# Altium footprint library CommonPcb.PcbLib: 194 footprints (part 4 of 13)
Each footprint in its own frame and in the unit in brackets; x right, y up, seen from the top. Pads: shape width x height; smd on the part's side, far side on the other; paste and mask are expansions set on the pad; w line width, h text height; cw(c..) or ccw(c..) is an arc to the next point about the centre after c.
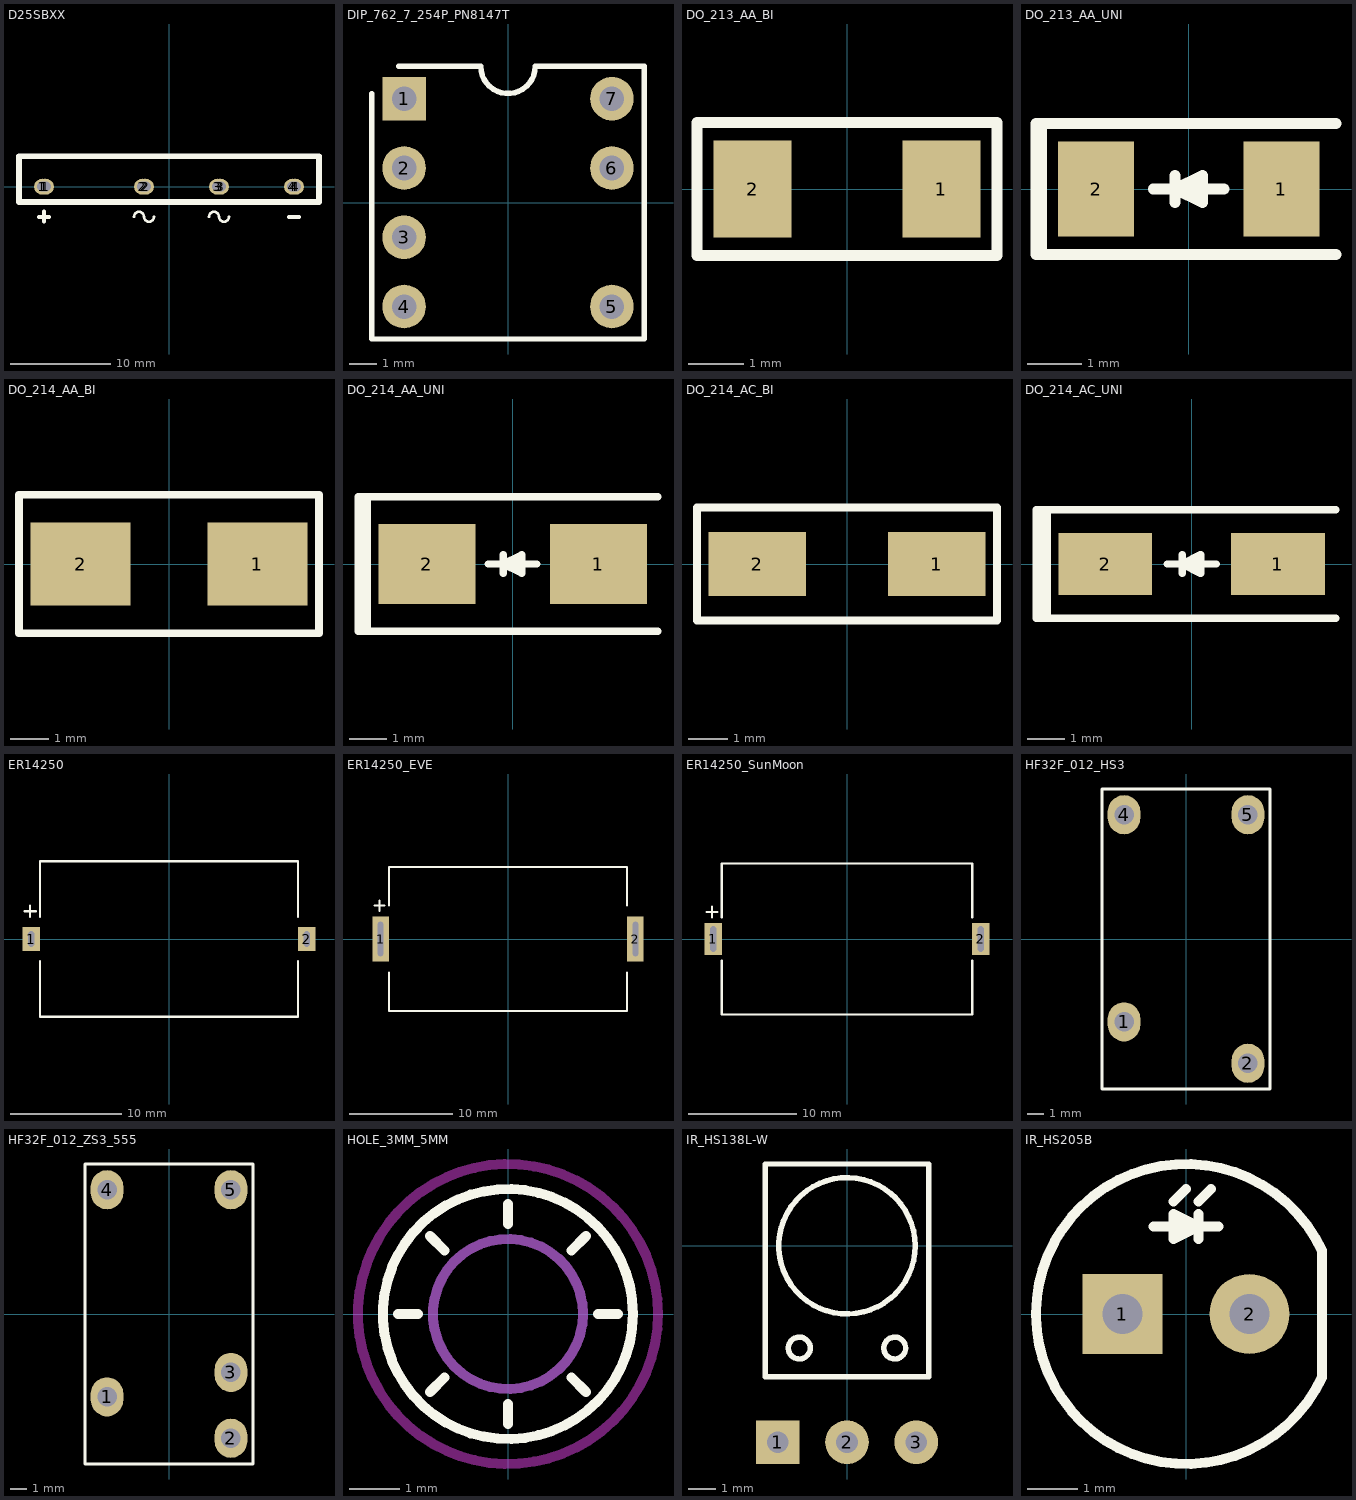
[diagram p3: the footprints below, top view; thin cyan lines are the x and y axes]

## D25SBXX [mm] "D25SBXX"
height 24
pads (12):
  round 1.6 hole 1 mask+0.1: 1(-12.7,0) 1(-12.5,0) 1(-12.3,0) 2(-2.7,0) 2(-2.5,0) 2(-2.3,0) 3(4.8,0) 3(5,0) 3(5.2,0) 4(12.3,0) 4(12.5,0) 4(12.7,0)
Top Overlay:
  lines w0.254: -3.5,-3 cw(c-3,-3) -2.5,-3 ccw(c-2,-3) -1.5,-3 ; 4,-3 cw(c4.5,-3) 5,-3 ccw(c5.5,-3) 6,-3
  lines w0.4: -13,-3 -12,-3 ; -12.5,-3.5 -12.5,-2.5 ; 12,-3 13,-3
  lines w0.6: -15,-1.55 15,-1.55 15,3.05 -15,3.05 -15,-1.55
3D body: height 24, standoff 0, extent -14.999,-1.549 14.999,3.049

## DIP_762_7_254P_PN8147T [mm] "DIP_762_7_254P"
height 4
pads (7):
  rect 1.6x1.6 hole 0.9 mask+0.1: 1(-3.81,3.81)
  round 1.6 hole 0.9 mask+0.1: 2(-3.81,1.27) 3(-3.81,-1.27) 4(-3.81,-3.81) 5(3.81,-3.81) 6(3.81,1.27) 7(3.81,3.81)
Top Overlay:
  lines w0.2: -5,4 -5,-5 5,-5 5,5 1,5 cw(c0,5) -1,5 -4,5
3D body: height 10, standoff 5, extent -5,-5 5,5

## DO_213_AA_BI [mm] "Mini-MELF  DO213-AA  LL-34  SOD-80"
pads (2):
  rect 1.4x1.75 smd mask+0.1: 1(1.7,0) 2(-1.7,0)
Top Overlay:
  lines w0.2: -2.7,-1.2 -2.7,1.2 2.7,1.2 2.7,-1.2 -2.7,-1.2
3D body: height 0, standoff 0, extent -2.699,-1.199 2.699,1.199

## DO_213_AA_UNI [mm] "Mini-MELF  DO213-AA  LL-34  SOD-80"
pads (2):
  rect 1.4x1.75 smd mask+0.1: 1(1.7,0) 2(-1.7,0)
Top Overlay:
  lines w0.2: -0.65,0 -0.25,0 ; -0.25,-0.25 -0.25,0.25 ; 0.65,0 0.25,0 -0.25,0 ; 2.7,-1.2 -2.7,-1.2 ; 2.7,1.2 -2.7,1.2 ; -2.7,-1.2 -2.7,1.2 ; -2.7,-1.2 -2.8,-1.2 -2.8,1.2 -2.7,1.2 ; -0.25,0 0.25,-0.25 0.25,0.25 -0.25,0
3D body: height 0, standoff 0, extent -2.699,-1.199 2.699,1.199

## DO_214_AA_BI [mm] "DO_214_AA  SMB"
pads (2):
  rect 2.6x2.15 smd mask+0.1: 1(2.3,0) 2(-2.3,0)
Top Overlay:
  lines w0.2: -3.9,-1.8 -3.9,1.8 3.9,1.8 3.9,-1.8 -3.9,-1.8
3D body: height 0, standoff 0, extent -3.899,-1.799 3.899,1.799

## DO_214_AA_UNI [mm] "DO_214_AA  SMB"
pads (2):
  rect 2.6x2.15 smd mask+0.1: 1(2.3,0) 2(-2.3,0)
Top Overlay:
  lines w0.2: -0.65,0 -0.25,0 ; -0.25,-0.25 -0.25,0.25 ; 0.65,0 0.25,0 -0.25,0 ; 3.9,-1.8 -3.9,-1.8 ; 3.9,1.8 -3.9,1.8 ; -4,-1.8 -4,1.8 ; -4,-1.8 -3.9,-1.8 ; -4,-1.8 -4.15,-1.8 -4.15,1.8 -4,1.8 ; -4,1.8 -3.9,1.8 ; -3.9,-1.8 -3.9,1.8 ; -0.25,0 0.25,0.25 0.25,-0.25 -0.25,0
3D body: height 0, standoff 0, extent -3.899,-1.799 3.899,1.799

## DO_214_AC_BI [mm] "DO_214_AC  SMA"
pads (2):
  rect 2.5x1.65 smd mask+0.1: 1(2.3,0) 2(-2.3,0)
Top Overlay:
  lines w0.2: -3.85,-1.45 -3.85,1.45 3.85,1.45 3.85,-1.45 -3.85,-1.45
3D body: height 0, standoff 0, extent -3.849,-1.449 3.849,1.449

## DO_214_AC_UNI [mm] "DO_214_AC SMA"
pads (2):
  rect 2.5x1.65 smd mask+0.1: 1(2.3,0) 2(-2.3,0)
Top Overlay:
  lines w0.2: -3.849,-1.449 -4,-1.449 ; -0.65,0 -0.25,0 ; -0.25,-0.25 -0.25,0.25 ; 0.65,0 0.25,0 -0.25,0 ; 3.85,-1.45 -3.85,-1.45 -3.85,1.45 ; 3.85,1.45 -3.85,1.45 ; -4,-1.449 -4,1.45 ; -4,-1.449 -4.15,-1.449 -4.15,1.45 -4,1.45 ; -4,1.45 -3.85,1.45 ; -0.25,0 0.25,0.25 0.25,-0.25 -0.25,0
3D body: height 0, standoff 0, extent -3.849,-1.449 3.849,1.449

## ER14250 [mm] "ER14250"
pads (36):
  round 0.6 hole 0.6 mask+0: 1(-12.4,-0.4) 1(-12.4,-0.35) 1(-12.4,-0.3) 1(-12.4,-0.25) 1(-12.4,-0.2) 1(-12.4,-0.15) 1(-12.4,-0.1) 1(-12.4,-0.05) 1(-12.4,0) 1(-12.4,0.05) 1(-12.4,0.1) 1(-12.4,0.15) 1(-12.4,0.2) 1(-12.4,0.25) 1(-12.4,0.3) 1(-12.4,0.35) 1(-12.4,0.4) 2(12.4,-0.4) 2(12.4,-0.35) 2(12.4,-0.3) 2(12.4,-0.25) 2(12.4,-0.2) 2(12.4,-0.15) 2(12.4,-0.1) 2(12.4,-0.05) 2(12.4,0) 2(12.4,0.05) 2(12.4,0.1) 2(12.4,0.15) 2(12.4,0.2) 2(12.4,0.25) 2(12.4,0.3) 2(12.4,0.35) 2(12.4,0.4)
  rect 1.6x2.2 hole 0.6 mask+0.1: 1(-12.4,0) 2(12.4,0)
Top Overlay:
  lines w0.2: -13,2.5 -12,2.5 ; -12.5,2 -12.5,3 ; -11.6,-2 -11.6,-7 11.6,-7 11.6,-2 ; -11.6,2 -11.6,7 11.6,7 11.6,2
3D body: height 0, standoff 0, extent -13.3,-7.1 13.3,7.1

## ER14250_EVE [mm] "ER14250"
pads (116):
  round 0.6 hole 0.6 mask+0: 1(-12.4,-1.4) 1(-12.4,-1.35) 1(-12.4,-1.3) 1(-12.4,-1.25) 1(-12.4,-1.2) 1(-12.4,-1.15) 1(-12.4,-1.1) 1(-12.4,-1.05) 1(-12.4,-1) 1(-12.4,-0.95) 1(-12.4,-0.9) 1(-12.4,-0.85) 1(-12.4,-0.8) 1(-12.4,-0.75) 1(-12.4,-0.7) 1(-12.4,-0.65) 1(-12.4,-0.6) 1(-12.4,-0.55) 1(-12.4,-0.5) 1(-12.4,-0.45) 1(-12.4,-0.4) 1(-12.4,-0.35) 1(-12.4,-0.3) 1(-12.4,-0.25) 1(-12.4,-0.2) 1(-12.4,-0.15) 1(-12.4,-0.1) 1(-12.4,-0.05) 1(-12.4,0) 1(-12.4,0.05) 1(-12.4,0.1) 1(-12.4,0.15) 1(-12.4,0.2) 1(-12.4,0.25) 1(-12.4,0.3) 1(-12.4,0.35) 1(-12.4,0.4) 1(-12.4,0.45) 1(-12.4,0.5) 1(-12.4,0.55) 1(-12.4,0.6) 1(-12.4,0.65) 1(-12.4,0.7) 1(-12.4,0.75) 1(-12.4,0.8) 1(-12.4,0.85) 1(-12.4,0.9) 1(-12.4,0.95) 1(-12.4,1) 1(-12.4,1.05) 1(-12.4,1.1) 1(-12.4,1.15) 1(-12.4,1.2) 1(-12.4,1.25) 1(-12.4,1.3) 1(-12.4,1.35) 1(-12.4,1.4) 2(12.4,-1.4) 2(12.4,-1.35) 2(12.4,-1.3) 2(12.4,-1.25) 2(12.4,-1.2) 2(12.4,-1.15) 2(12.4,-1.1) 2(12.4,-1.05) 2(12.4,-1) 2(12.4,-0.95) 2(12.4,-0.9) 2(12.4,-0.85) 2(12.4,-0.8) 2(12.4,-0.75) 2(12.4,-0.7) 2(12.4,-0.65) 2(12.4,-0.6) 2(12.4,-0.55) 2(12.4,-0.5) 2(12.4,-0.45) 2(12.4,-0.4) 2(12.4,-0.35) 2(12.4,-0.3) 2(12.4,-0.25) 2(12.4,-0.2) 2(12.4,-0.15) 2(12.4,-0.1) 2(12.4,-0.05) 2(12.4,0) 2(12.4,0.05) 2(12.4,0.1) 2(12.4,0.15) 2(12.4,0.2) 2(12.4,0.25) 2(12.4,0.3) 2(12.4,0.35) 2(12.4,0.4) 2(12.4,0.45) 2(12.4,0.5) 2(12.4,0.55) 2(12.4,0.6) 2(12.4,0.65) 2(12.4,0.7) 2(12.4,0.75) 2(12.4,0.8) 2(12.4,0.85) 2(12.4,0.9) 2(12.4,0.95) 2(12.4,1) 2(12.4,1.05) 2(12.4,1.1) 2(12.4,1.15) 2(12.4,1.2) 2(12.4,1.25) 2(12.4,1.3) 2(12.4,1.35) 2(12.4,1.4)
  rect 1.6x4.4 hole 0.6 mask+0.1: 1(-12.4,0) 2(12.4,0)
Top Overlay:
  lines w0.2: -13,3.25 -12,3.25 ; -12.5,2.75 -12.5,3.75 ; -11.6,-3.25 -11.6,-7 11.6,-7 11.6,-3.25 ; -11.6,3.25 -11.6,7 11.6,7 11.6,3.25
3D body: height 0, standoff 0, extent -13.3,-7.1 13.3,7.1

## ER14250_SunMoon [mm] "ER14250"
pads (76):
  round 0.6 hole 0.6 mask+0: 1(-12.4,-0.9) 1(-12.4,-0.85) 1(-12.4,-0.8) 1(-12.4,-0.75) 1(-12.4,-0.7) 1(-12.4,-0.65) 1(-12.4,-0.6) 1(-12.4,-0.55) 1(-12.4,-0.5) 1(-12.4,-0.45) 1(-12.4,-0.4) 1(-12.4,-0.35) 1(-12.4,-0.3) 1(-12.4,-0.25) 1(-12.4,-0.2) 1(-12.4,-0.15) 1(-12.4,-0.1) 1(-12.4,-0.05) 1(-12.4,0) 1(-12.4,0.05) 1(-12.4,0.1) 1(-12.4,0.15) 1(-12.4,0.2) 1(-12.4,0.25) 1(-12.4,0.3) 1(-12.4,0.35) 1(-12.4,0.4) 1(-12.4,0.45) 1(-12.4,0.5) 1(-12.4,0.55) 1(-12.4,0.6) 1(-12.4,0.65) 1(-12.4,0.7) 1(-12.4,0.75) 1(-12.4,0.8) 1(-12.4,0.85) 1(-12.4,0.9) 2(12.4,-0.9) 2(12.4,-0.85) 2(12.4,-0.8) 2(12.4,-0.75) 2(12.4,-0.7) 2(12.4,-0.65) 2(12.4,-0.6) 2(12.4,-0.55) 2(12.4,-0.5) 2(12.4,-0.45) 2(12.4,-0.4) 2(12.4,-0.35) 2(12.4,-0.3) 2(12.4,-0.25) 2(12.4,-0.2) 2(12.4,-0.15) 2(12.4,-0.1) 2(12.4,-0.05) 2(12.4,0) 2(12.4,0.05) 2(12.4,0.1) 2(12.4,0.15) 2(12.4,0.2) 2(12.4,0.25) 2(12.4,0.3) 2(12.4,0.35) 2(12.4,0.4) 2(12.4,0.45) 2(12.4,0.5) 2(12.4,0.55) 2(12.4,0.6) 2(12.4,0.65) 2(12.4,0.7) 2(12.4,0.75) 2(12.4,0.8) 2(12.4,0.85) 2(12.4,0.9)
  rect 1.6x3 hole 0.6 mask+0.1: 1(-12.4,0) 2(12.4,0)
Top Overlay:
  lines w0.2: -13,2.5 -12,2.5 ; -12.5,2 -12.5,3 ; -11.6,-2 -11.6,-7 11.6,-7 11.6,-2 ; -11.6,2 -11.6,7 11.6,7 11.6,2
3D body: height 0, standoff 0, extent -13.3,-7.1 13.3,7.1

## HF32F_012_HS3 [mm] "HF32F_012_HS3"
pads (4):
  oval 2x2.4 hole 1.2 mask+0.1: 1(-3.8,-5.08) 2(3.8,-7.62) 4(-3.8,7.62) 5(3.8,7.62)
Top Overlay:
  lines w0.2: -5.15,-9.2 -5.15,9.2 5.15,9.2 5.15,-9.2 -5.15,-9.2
Bottom Overlay:
  lines w0.2: -2,-5 -0.5,-5 0.5,-4 ; -2,7.62 -0.5,7.62 ; 0.5,-7.62 2,-7.62 ; 0.5,-3.58 2,-3.58 ; 0.5,7.62 2,7.62 ; -0.5,6.52 -0.5,8.62 0.5,8.62 0.5,6.52 -0.5,6.52
3D body: height 0, standoff 0, extent -5.25,-9.3 5.25,9.3

## HF32F_012_ZS3_555 [mm] "HF32F_012_ZS3_555"
pads (5):
  oval 2x2.4 hole 1.2 mask+0.1: 1(-3.8,-5.08) 2(3.8,-7.62) 3(3.8,-3.58) 4(-3.8,7.62) 5(3.8,7.62)
Top Overlay:
  lines w0.2: -5.15,-9.2 5.15,-9.2 5.15,9.2 -5.15,9.2 -5.15,-9.2
Bottom Overlay:
  lines w0.2: -2,-5 -0.5,-5 0.5,-4 ; -2,7.62 -0.5,7.62 ; 0.5,-7.62 2,-7.62 ; 0.5,-3.58 2,-3.58 ; 0.5,7.62 2,7.62 ; -0.5,6.52 0.5,6.52 0.5,8.62 -0.5,8.62 -0.5,6.52
3D body: height 0, standoff 0, extent -5.25,-9.3 5.25,9.3

## HOLE_3MM_5MM [mm] "HOLE_3mm_5mm"
Top Overlay:
  circle w0.2: c0,0 r2.5
  lines w0.2: -2.2,0 -1.8,0 ; -1.556,-1.556 -1.273,-1.273 ; -1.556,1.556 -1.273,1.273 ; 0,-2.2 0,-1.8 ; 0,1.8 0,2.2 ; 1.273,-1.273 1.556,-1.556 ; 1.273,1.273 1.556,1.556 ; 1.8,0 2.2,0
Bottom Overlay:
  circle w0.2: c0,0 r2.5
  lines w0.2: -2.2,0 -1.8,0 ; -1.556,-1.556 -1.273,-1.273 ; -1.556,1.556 -1.273,1.273 ; 0,-2.2 0,-1.8 ; 0,1.8 0,2.2 ; 1.273,-1.273 1.556,-1.556 ; 1.273,1.273 1.556,1.556 ; 1.8,0 2.2,0
Keep-Out Layer:
  circle w0.2: c0,0 r3
Mechanical 1:
  circle w0.2: c0,0 r1.5
3D body: height 0, standoff 0, extent -2.499,-2.499 2.499,2.499

## IR_HS138L-W [mm] "IR Receive Mode"
pads (3):
  rect 1.6x1.6 hole 0.8 mask+0.1: 1(-2.54,-7.2)
  round 1.6 hole 0.8 mask+0.1: 2(0,-7.2) 3(2.54,-7.2)
Top Overlay:
  circle w0.2: c0,0 r2.5
  circle w0.2: c-1.75,-3.75 r0.4
  circle w0.2: c1.75,-3.75 r0.4
  lines w0.2: -3,-4.8 -3,3 3,3 3,-4.8 -3,-4.8
3D body: height 10, standoff 5, extent -3.749,-7.999 3.749,3.249

## IR_HS205B [mm] "5.0mm Round Type"
pads (2):
  rect 1.6x1.6 hole 0.8 mask+0.1: 1(-1.27,0)
  round 1.6 hole 0.8 mask+0.1: 2(1.27,0)
Top Overlay:
  lines w0.2: -0.65,1.75 -0.25,1.75 0.25,1.75 ; -0.25,2.25 0,2.5 ; 0.25,1.5 0.25,2 ; 0.25,2.25 0.5,2.5 ; 0.65,1.75 0.25,1.75 ; 0.25,1.75 -0.25,1.5 -0.25,2 0.25,1.75 ; 2.719,-1.268 cw(c0,0) 2.719,1.268 2.719,-1.268
3D body: height 0, standoff 0, extent -3.001,-3.009 2.719,3.009